# Altium footprint library LQFP100.PcbLib: 1 footprints
Each footprint in its own frame and in the unit in brackets; x right, y up, seen from the top. Pads: shape width x height; smd on the part's side, far side on the other; paste and mask are expansions set on the pad; w line width, h text height; cw(c..) or ccw(c..) is an arc to the next point about the centre after c.
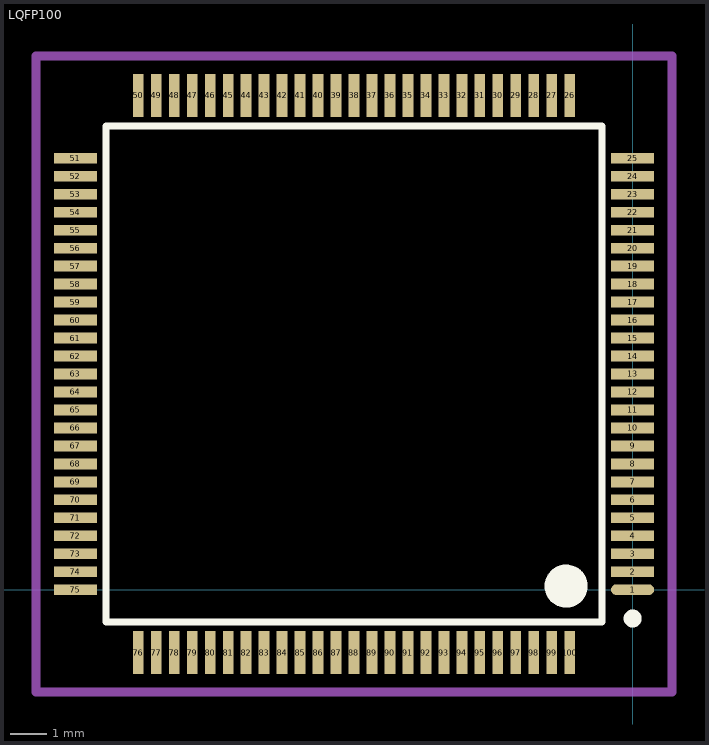
[diagram p0: the footprint, top view; thin cyan lines are the x and y axes]

## LQFP100 [mm] "Thin QFP, 100-Leads, Body 14x14mm, Pitch 0.5mm, ST Recommended"
height 1.6
pads (100):
  oval 1.2x0.3 smd: 1(0,0)
  rect 1.2x0.3 smd: 2(0,0.5) 3(0,1) 4(0,1.5) 5(0,2) 6(0,2.5) 7(0,3) 8(0,3.5) 9(0,4) 10(0,4.5) 11(0,5) 12(0,5.5) 13(0,6) 14(0,6.5) 15(0,7) 16(0,7.5) 17(0,8) 18(0,8.5) 19(0,9) 20(0,9.5) 21(0,10) 22(0,10.5) 23(0,11) 24(0,11.5) 25(0,12) 51(-15.5,12) 52(-15.5,11.5) 53(-15.5,11) 54(-15.5,10.5) 55(-15.5,10) 56(-15.5,9.5) 57(-15.5,9) 58(-15.5,8.5) 59(-15.5,8) 60(-15.5,7.5) 61(-15.5,7) 62(-15.5,6.5) 63(-15.5,6) 64(-15.5,5.5) 65(-15.5,5) 66(-15.5,4.5) 67(-15.5,4) 68(-15.5,3.5) 69(-15.5,3) 70(-15.5,2.5) 71(-15.5,2) 72(-15.5,1.5) 73(-15.5,1) 74(-15.5,0.5) 75(-15.5,0)
  rect 0.3x1.2 smd: 26(-1.75,13.75) 27(-2.25,13.75) 28(-2.75,13.75) 29(-3.25,13.75) 30(-3.75,13.75) 31(-4.25,13.75) 32(-4.75,13.75) 33(-5.25,13.75) 34(-5.75,13.75) 35(-6.25,13.75) 36(-6.75,13.75) 37(-7.25,13.75) 38(-7.75,13.75) 39(-8.25,13.75) 40(-8.75,13.75) 41(-9.25,13.75) 42(-9.75,13.75) 43(-10.25,13.75) 44(-10.75,13.75) 45(-11.25,13.75) 46(-11.75,13.75) 47(-12.25,13.75) 48(-12.75,13.75) 49(-13.25,13.75) 50(-13.75,13.75) 76(-13.75,-1.75) 77(-13.25,-1.75) 78(-12.75,-1.75) 79(-12.25,-1.75) 80(-11.75,-1.75) 81(-11.25,-1.75) 82(-10.75,-1.75) 83(-10.25,-1.75) 84(-9.75,-1.75) 85(-9.25,-1.75) 86(-8.75,-1.75) 87(-8.25,-1.75) 88(-7.75,-1.75) 89(-7.25,-1.75) 90(-6.75,-1.75) 91(-6.25,-1.75) 92(-5.75,-1.75) 93(-5.25,-1.75) 94(-4.75,-1.75) 95(-4.25,-1.75) 96(-3.75,-1.75) 97(-3.25,-1.75) 98(-2.75,-1.75) 99(-2.25,-1.75) 100(-1.75,-1.75)
Top Overlay:
  circle w0.25: c0,-0.8 r0.125
  circle w0.6: c-1.85,0.1 r0.3
  lines w0.2: -14.65,-0.9 -0.85,-0.9 -0.85,12.9 -14.65,12.9 -14.65,-0.9
Mechanical 15:
  lines w0.254: -16.6,-2.85 -16.6,14.85 1.1,14.85 1.1,-2.85 -16.6,-2.85
3D body "LQFP100-14x14mm.step": height 1.6, standoff 0, extent -15.747,-1.997 0.247,13.997